# Altium footprint library IC.PcbLib: 10 footprints
Each footprint in its own frame and in the unit in brackets; x right, y up, seen from the top. Pads: shape width x height; smd on the part's side, far side on the other; paste and mask are expansions set on the pad; w line width, h text height; cw(c..) or ccw(c..) is an arc to the next point about the centre after c.
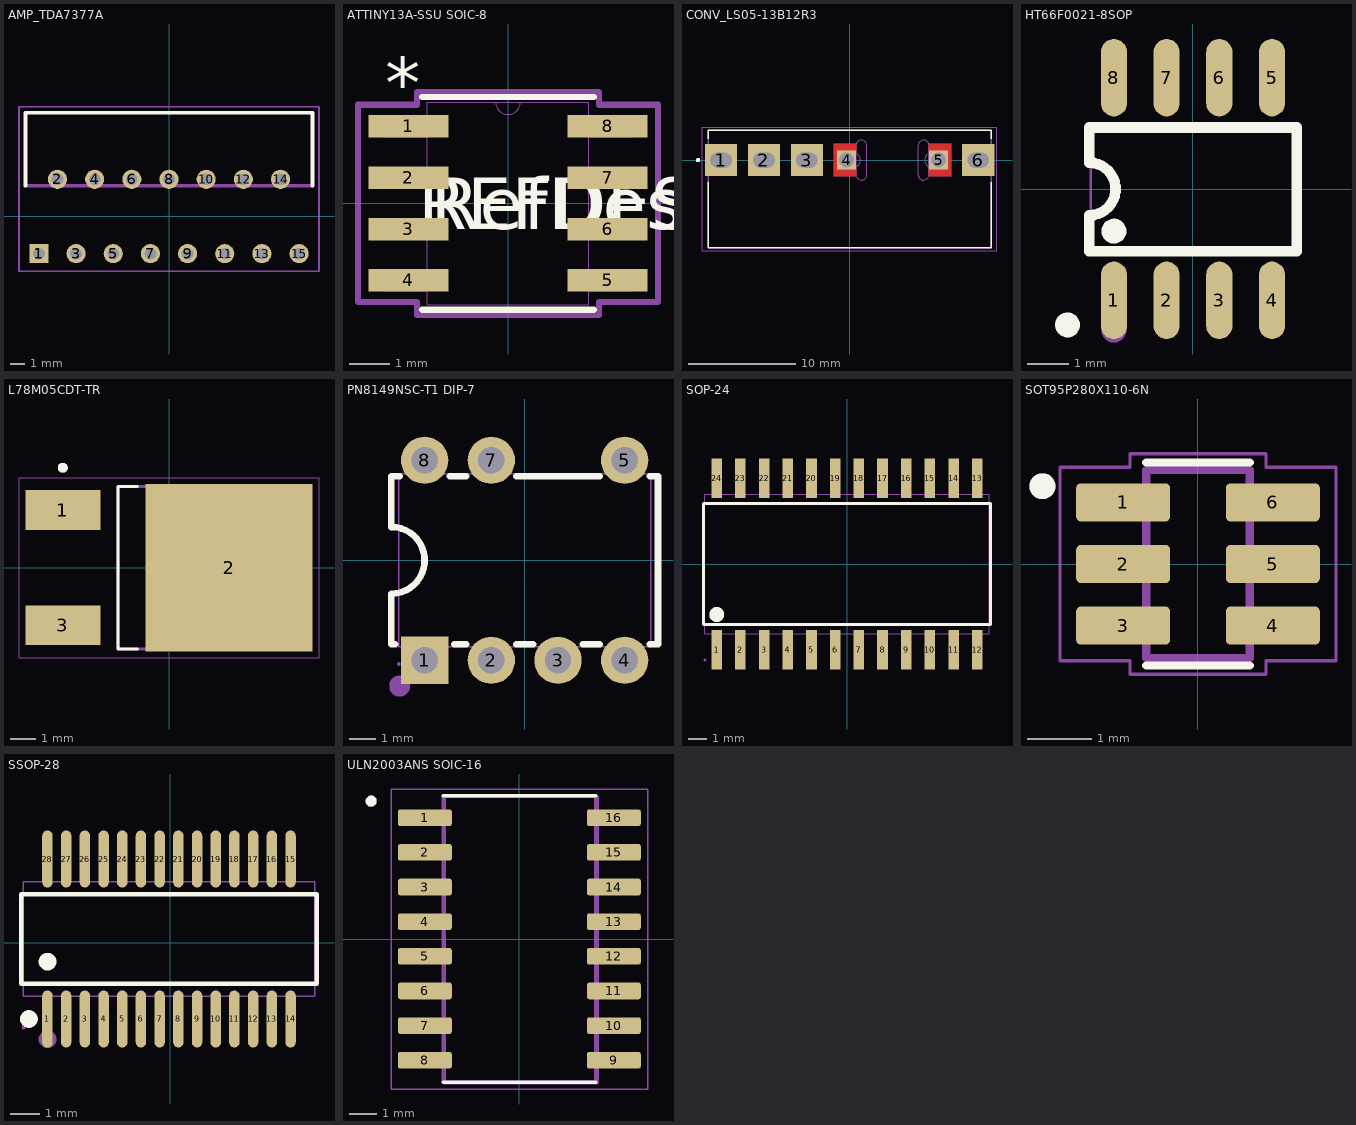
[diagram p0: the footprints below, top view; thin cyan lines are the x and y axes]

## AMP_TDA7377A [mm]
pads (15):
  rect 1.308x1.308 / inner round 1.308 / far side rect 1.308x1.308 hole 0.8: 1(-8.89,-2.54)
  round 1.308 hole 0.8: 2(-7.62,2.54) 3(-6.35,-2.54) 4(-5.08,2.54) 5(-3.81,-2.54) 6(-2.54,2.54) 7(-1.27,-2.54) 8(0,2.54) 9(1.27,-2.54) 10(2.54,2.54) 11(3.81,-2.54) 12(5.08,2.54) 13(6.35,-2.54) 14(7.62,2.54) 15(8.89,-2.54)
Top Overlay:
  lines w0.254: -9.8,2.09 -9.8,7.09 9.8,7.09 9.8,2.09
Mechanical 13:
  lines w0.254: -9.8,2.09 9.8,2.09
Mechanical 15:
  lines w0.127: -10.25,-3.75 10.25,-3.75 10.25,7.5 -10.25,7.5 -10.25,-3.75
Mechanical 29 (Mech29):
  text "'.Designator'" at -6.172,1.956 h1.52
3D body "step_temp.STEP": height 21, standoff -4.4, extent -9.8,-2.855 9.8,7.035

## ATTINY13A-SSU SOIC-8 [mil]
pads (8):
  rect 78x22 smd paste+0 mask+0: 1(-97,75) 2(-97,25) 3(-97,-25) 4(-97,-75) 5(97,-75) 6(97,-25) 7(97,25) 8(97,75)
Top Overlay:
  lines w6: -83.5,-103.5 83.5,-103.5 ; -83.5,103.5 83.5,103.5
  text "RefDes" at -75,-25 h50
  text "*" at -119.5,92 h50
  text "REFDES" at -87.5,-25 h50
Mechanical 15:
  lines w0: -12,98.5 ccw(c0,98.5) 12,98.5
  lines w1: -122,-85 -78.5,-85 -78.5,-65 -122,-65 -122,-85 ; -122,-35 -78.5,-35 -78.5,-15 -122,-15 -122,-35 ; -122,15 -78.5,15 -78.5,35 -122,35 -122,15 ; -122,65 -78.5,65 -78.5,85 -122,85 -122,65 ; -78.5,-98.5 -78.5,98.5 78.5,98.5 78.5,-98.5 -78.5,-98.5 ; 78.5,-85 78.5,-65 122,-65 122,-85 78.5,-85 ; 78.5,-35 78.5,-15 122,-15 122,-35 78.5,-35 ; 78.5,15 78.5,35 122,35 122,15 78.5,15 ; 78.5,65 78.5,85 122,85 122,65 78.5,65
  lines w6: -146,-96 -88.5,-96 -88.5,-108.5 88.5,-108.5 88.5,-96 146,-96 146,96 88.5,96 88.5,108.5 -88.5,108.5 -88.5,96 -146,96 -146,-96
Mechanical 29 (Mech29):
  text "*" at -76,45.5 h50
  text "'.Designator'" at -133,-29 h50
3D body "8S1_ATM.step": height 67.09, standoff 0, extent -122,-98.5 122.01,98.51

## CONV_LS05-13B12R3 [mm]
pads (6):
  rect 3x3 hole 1.4 slot 2 at 0 deg: 1(-12,0) 2(-8,0) 3(-4,0) 6(12,0)
  rect 1.78x1.78 hole 1.4 mask+0: 4(-0.29,0) 5(8.29,0)
Top Layer:
  region: 9.5,-1.5 7.4,-1.5 7.4,-0.7 8.3,-0.7 8.337,-0.699 8.373,-0.696 8.41,-0.691 8.446,-0.685 8.481,-0.676 8.516,-0.666 8.551,-0.654 8.585,-0.639 8.618,-0.624 8.65,-0.606 8.681,-0.587 8.711,-0.566 8.741,-0.544 8.768,-0.52 8.795,-0.495 8.82,-0.468 8.844,-0.441 8.866,-0.411 8.887,-0.381 8.906,-0.35 8.924,-0.318 8.939,-0.285 8.954,-0.251 8.966,-0.216 8.976,-0.181 8.985,-0.146 8.991,-0.11 8.996,-0.073 8.999,-0.037 9,0 8.999,0.037 8.996,0.073 8.991,0.11 8.985,0.146 8.976,0.181 8.966,0.216 8.954,0.251 8.939,0.285 8.924,0.318 8.906,0.35 8.887,0.381 8.866,0.411 8.844,0.441 8.82,0.468 8.795,0.495 8.768,0.52 8.741,0.544 8.711,0.566 8.681,0.587 8.65,0.606 8.618,0.624 8.585,0.639 8.551,0.654 8.516,0.666 8.481,0.676 8.446,0.685 8.41,0.691 8.373,0.696 8.337,0.699 8.3,0.7 7.4,0.7 7.4,1.5 9.5,1.5
  region: 0.6,0.7 -0.3,0.7 -0.337,0.699 -0.373,0.696 -0.41,0.691 -0.446,0.685 -0.481,0.676 -0.516,0.666 -0.551,0.654 -0.585,0.639 -0.618,0.624 -0.65,0.606 -0.681,0.587 -0.711,0.566 -0.741,0.544 -0.768,0.52 -0.795,0.495 -0.82,0.468 -0.844,0.441 -0.866,0.411 -0.887,0.381 -0.906,0.35 -0.924,0.318 -0.939,0.285 -0.954,0.251 -0.966,0.216 -0.976,0.181 -0.985,0.146 -0.991,0.11 -0.996,0.073 -0.999,0.037 -1,0 -0.999,-0.037 -0.996,-0.073 -0.991,-0.11 -0.985,-0.146 -0.976,-0.181 -0.966,-0.216 -0.954,-0.251 -0.939,-0.285 -0.924,-0.318 -0.906,-0.35 -0.887,-0.381 -0.866,-0.411 -0.844,-0.441 -0.82,-0.468 -0.795,-0.495 -0.768,-0.52 -0.741,-0.544 -0.711,-0.566 -0.681,-0.587 -0.65,-0.606 -0.618,-0.624 -0.585,-0.639 -0.551,-0.654 -0.516,-0.666 -0.481,-0.676 -0.446,-0.685 -0.41,-0.691 -0.373,-0.696 -0.337,-0.699 -0.3,-0.7 0.6,-0.7 0.6,-1.5 -1.5,-1.5 -1.5,1.5 0.6,1.5
Bottom Layer:
  region: 9.5,-1.5 7.4,-1.5 7.4,-0.7 8.3,-0.7 8.337,-0.699 8.373,-0.696 8.41,-0.691 8.446,-0.685 8.481,-0.676 8.516,-0.666 8.551,-0.654 8.585,-0.639 8.618,-0.624 8.65,-0.606 8.681,-0.587 8.711,-0.566 8.741,-0.544 8.768,-0.52 8.795,-0.495 8.82,-0.468 8.844,-0.441 8.866,-0.411 8.887,-0.381 8.906,-0.35 8.924,-0.318 8.939,-0.285 8.954,-0.251 8.966,-0.216 8.976,-0.181 8.985,-0.146 8.991,-0.11 8.996,-0.073 8.999,-0.037 9,0 8.999,0.037 8.996,0.073 8.991,0.11 8.985,0.146 8.976,0.181 8.966,0.216 8.954,0.251 8.939,0.285 8.924,0.318 8.906,0.35 8.887,0.381 8.866,0.411 8.844,0.441 8.82,0.468 8.795,0.495 8.768,0.52 8.741,0.544 8.711,0.566 8.681,0.587 8.65,0.606 8.618,0.624 8.585,0.639 8.551,0.654 8.516,0.666 8.481,0.676 8.446,0.685 8.41,0.691 8.373,0.696 8.337,0.699 8.3,0.7 7.4,0.7 7.4,1.5 9.5,1.5
  region: 0.6,0.7 -0.3,0.7 -0.337,0.699 -0.373,0.696 -0.41,0.691 -0.446,0.685 -0.481,0.676 -0.516,0.666 -0.551,0.654 -0.585,0.639 -0.618,0.624 -0.65,0.606 -0.681,0.587 -0.711,0.566 -0.741,0.544 -0.768,0.52 -0.795,0.495 -0.82,0.468 -0.844,0.441 -0.866,0.411 -0.887,0.381 -0.906,0.35 -0.924,0.318 -0.939,0.285 -0.954,0.251 -0.966,0.216 -0.976,0.181 -0.985,0.146 -0.991,0.11 -0.996,0.073 -0.999,0.037 -1,0 -0.999,-0.037 -0.996,-0.073 -0.991,-0.11 -0.985,-0.146 -0.976,-0.181 -0.966,-0.216 -0.954,-0.251 -0.939,-0.285 -0.924,-0.318 -0.906,-0.35 -0.887,-0.381 -0.866,-0.411 -0.844,-0.441 -0.82,-0.468 -0.795,-0.495 -0.768,-0.52 -0.741,-0.544 -0.711,-0.566 -0.681,-0.587 -0.65,-0.606 -0.618,-0.624 -0.585,-0.639 -0.551,-0.654 -0.516,-0.666 -0.481,-0.676 -0.446,-0.685 -0.41,-0.691 -0.373,-0.696 -0.337,-0.699 -0.3,-0.7 0.6,-0.7 0.6,-1.5 -1.5,-1.5 -1.5,1.5 0.6,1.5
Top Overlay:
  circle w0.2: c-14.15,0 r0.1
  lines w0.127: -13.2,-2.05 -13.2,-8.2 13.2,-8.2 13.2,-2.05 ; -13.2,2 -13.2,2.8 13.2,2.8 13.2,2
Top Solder:
  region: 7.49,-1.965 6.3,-1.965 6.3,1.965 7.49,1.965
  region: 9.6,-1.6 7.3,-1.6 7.3,-0.6 7.3,0.6 7.3,1.6 9.6,1.6
  region: 0.7,0.6 0.7,-0.6 0.7,-1.6 -1.6,-1.6 -1.6,1.6 0.7,1.6
  region: 1.7,-1.965 0.49,-1.965 0.49,1.965 1.7,1.965
Bottom Solder:
  region: 7.49,-1.965 6.3,-1.965 6.3,1.965 7.49,1.965
  region: 9.6,-1.6 7.3,-1.6 7.3,-0.6 7.3,0.6 7.3,1.6 9.6,1.6
  region: 0.7,0.6 0.7,-0.6 0.7,-1.6 -1.6,-1.6 -1.6,1.6 0.7,1.6
  region: 1.7,-1.965 0.49,-1.965 0.49,1.965 1.7,1.965
Mechanical 1:
  lines w0: 0.6,-1.365 0.6,1.365 ; 0.6,-1.361 ccw(c1.095,-1.37) 1.086,-1.865 ccw(c1.095,-1.36) 1.6,-1.369 ; 0.6,1.361 cw(c1.095,1.37) 1.086,1.865 cw(c1.095,1.36) 1.6,1.369 ; 1.6,-1.365 1.6,1.365 ; 6.4,-1.369 ccw(c6.905,-1.36) 6.914,-1.865 ccw(c6.905,-1.37) 7.4,-1.361 ; 6.4,-1.365 6.4,1.365 ; 6.4,1.369 cw(c6.905,1.36) 6.914,1.865 cw(c6.905,1.37) 7.4,1.361 ; 7.4,-1.365 7.4,1.365 ; -1,0 cw(c-0.3,0) -0.3,0.7 0.3,0.7 cw(c0.3,0) 1,0 cw(c0.3,0) 0.3,-0.7 -0.3,-0.7 cw(c-0.3,0) -1,0 ; 7,0 cw(c7.7,0) 7.7,0.7 8.3,0.7 cw(c8.3,0) 9,0 cw(c8.3,0) 8.3,-0.7 7.7,-0.7 cw(c7.7,0) 7,0
Mechanical 13:
  circle w0.2: c-14.15,0 r0.1
  lines w0.127: -13.2,-8.2 13.2,-8.2 13.2,2.8 -13.2,2.8 -13.2,-8.2
Mechanical 15:
  lines w0.05: -13.75,-8.45 13.75,-8.45 13.75,3.05 -13.75,3.05 -13.75,-8.45
Mechanical 29 (Mech29):
  text "'.Designator'" at -2.921,-2.032 h1.52
3D body "step_temp.STEP": height 14.73, standoff -2.87, extent -13.2,-8.2 13.2,2.8

## HT66F0021-8SOP [mm]
pads (8):
  oval 0.63x1.865 smd paste+0 mask+0.051: 1(-1.905,-2.682) 2(-0.635,-2.682) 3(0.635,-2.682) 4(1.905,-2.682) 5(1.905,2.682) 6(0.635,2.682) 7(-0.635,2.682) 8(-1.905,2.682)
Top Overlay:
  circle w0.3: c-1.905,-1.016 r0.15
  circle w0.3: c-3.023,-3.277 r0.15
  lines w0.254: -2.5,-1.498 2.5,-1.498 2.5,1.482 -2.5,1.482 -2.499,0.635 cw(c-2.5,0) -2.5,-0.635 -2.5,-1.498
Mechanical 15:
  circle w0.3: c-1.905,-3.4 r0.15
  lines w0.051: -2.464,-1.448 2.439,-1.448 2.439,1.448 -2.464,1.448 -2.464,-1.448
Mechanical 29 (Mech29):
  text "'.Designator'" at -2.413,-0.762 h1.52
3D body "SO-8.STEP": height 1.5, standoff 0, extent -2.399,-3.039 2.501,2.989

## L78M05CDT-TR [mm]
height 2.4
pads (3):
  rect 3x1.6 smd: 1(-4.25,2.3) 3(-4.25,-2.3)
  rect 6.7x6.7 smd paste-2.645: 2(2.4,0)
Top Overlay:
  circle w0.2: c-4.25,4 r0.1
  lines w0.127: -1.264,-3.25 -2.037,-3.25 -2.037,3.25 -1.264,3.25
Top Paste:
  region: 0.645,-3.165 -0.765,-3.165 -0.765,-1.755 0.645,-1.755
  region: 0.645,-0.705 -0.765,-0.705 -0.765,0.705 0.645,0.705
  region: 0.645,1.755 -0.765,1.755 -0.765,3.165 0.645,3.165
  region: 5.565,-3.165 4.155,-3.165 4.155,-1.755 5.565,-1.755
  region: 3.105,-3.165 1.695,-3.165 1.695,-1.755 3.105,-1.755
  region: 5.565,-0.705 4.155,-0.705 4.155,0.705 5.565,0.705
  region: 5.565,1.755 4.155,1.755 4.155,3.165 5.565,3.165
  region: 3.105,1.755 1.695,1.755 1.695,3.165 3.105,3.165
Mechanical 13:
  lines w0.127: -2.037,-3.25 -2.037,3.25 4.062,3.25 4.062,-3.25 -2.037,-3.25
Mechanical 15:
  lines w0.05: -6,-3.6 6,-3.6 6,3.6 -6,3.6 -6,-3.6
Mechanical 29 (Mech29):
  circle w0.2: c-4.25,4 r0.1
  text "'.Designator'" at -5.08,-0.635 h1.52
3D body "step_temp.STEP": height 2.4, standoff 0, extent -4.725,-3.25 5,3.25

## PN8149NSC-T1 DIP-7 [mm]
pads (7):
  rect 1.8x1.8 hole 1: 1(-3.81,-3.81)
  round 1.8 hole 1: 2(-1.27,-3.81) 3(1.27,-3.81) 4(3.81,-3.81) 5(3.81,3.81) 7(-1.27,3.81) 8(-3.81,3.81)
Top Overlay:
  lines w0.254: -4.941,-3.2 -5.08,-3.2 -5.08,-1.27 ccw(c-5.08,0) -5.08,1.27 -5.08,3.2 -4.762,3.2 ; -2.858,3.2 -2.222,3.2 ; -2.679,-3.2 -2.222,-3.2 ; -0.318,-3.2 0.318,-3.2 ; -0.318,3.2 0.318,3.2 2.222,3.2 2.858,3.2 ; 2.222,-3.2 2.858,-3.2 ; 4.762,-3.2 5.08,-3.2 5.08,3.2 4.762,3.2
Mechanical 15:
  region: -4.74,-3.95 -4.74,-3.975 -4.775,-4.01 -4.825,-4.01 -4.86,-3.975 -4.86,-3.95 -4.86,-3.925 -4.825,-3.89 -4.775,-3.89 -4.74,-3.925 -4.74,-3.95
  region: -4.06,3.67 -4.06,3.95 -3.56,3.95 -3.56,3.67
  region: -3.56,-3.95 -4.06,-3.95 -4.06,-3.67 -3.56,-3.67
  region: -1.52,-3.95 -1.52,-3.67 -1.02,-3.67 -1.02,-3.95
  region: 1.02,-3.95 1.02,-3.67 1.52,-3.67 1.52,-3.95
  region: 3.56,-3.95 3.56,-3.67 4.06,-3.67 4.06,-3.95
  region: 3.56,3.67 3.56,3.95 4.06,3.95 4.06,3.67
  region: -1.52,3.67 -1.52,3.95 -1.02,3.95 -1.02,3.67
  region: -1.63,3.95 -0.902,3.95 -0.902,3.29 -1.63,3.29
  region: -0.91,-3.95 -1.638,-3.95 -1.638,-3.29 -0.91,-3.29
  region: 1.63,-3.95 0.902,-3.95 0.902,-3.29 1.63,-3.29
  region: -4.06,3.95 -3.442,3.95 -3.442,3.29 -4.06,3.29
  region: -3.442,-3.95 -4.06,-3.95 -4.06,-3.29 -3.442,-3.29
  region: 4.058,-3.95 3.44,-3.95 3.44,-3.29 4.058,-3.29
  region: 3.44,3.95 4.058,3.95 4.058,3.29 3.44,3.29
  lines w0.051: -4.8,-3.3 -4.8,3.3 4.8,3.3 4.8,-3.3 -4.8,-3.3
Mechanical 29 (Mech29):
  circle w0.4: c-4.76,-4.79 r0.2
3D body "AnyConv.com__3dslash-14 Sep 25.step": height 5.63, standoff -3, extent -5.545,-3.989 5.393,3.886

## SOP-24 [mil]
pads (24):
  rect 22.38x83.4 smd: 1(-275,-181.46) 2(-225,-181.46) 3(-175,-181.46) 4(-125,-181.46) 5(-75,-181.46) 6(-25,-181.46) 7(25,-181.46) 8(75,-181.46) 9(125,-181.46) 10(175,-181.46) 11(225,-181.46) 12(275,-181.46) 13(275,181.46) 14(225,181.46) 15(175,181.46) 16(125,181.46) 17(75,181.46) 18(25,181.46) 19(-25,181.46) 20(-75,181.46) 21(-125,181.46) 22(-175,181.46) 23(-225,181.46) 24(-275,181.46)
Top Overlay:
  circle w15.75: c-275,-106.66 r7.87
  lines w6: -303,-127.76 -303,127.76 303,127.76 303,-127.76 -303,-127.76
Mechanical 15:
  drawing of 53 lines, arcs and shapes, not listed
Mechanical 29 (Mech29):
  circle w15.75: c-275,-106.66 r7.87
  text "'.Designator'" at -280,-40 h60
3D body "SOP127P1030X252-24N.step": height 99.02, standoff 0, extent -301.18,-197.76 301.18,207.76

## SOT95P280X110-6N [mm]
pads (6):
  rrect25% 1.45x0.59 smd: 1(-1.155,0.95) 2(-1.155,0) 3(-1.155,-0.95) 4(1.155,-0.95) 5(1.155,0) 6(1.155,0.95)
Top Overlay:
  circle w0.2: c-2.4,1.2 r0.1
  lines w0.127: -0.8,-1.565 0.8,-1.565 ; -0.8,1.565 0.8,1.565
Mechanical 13:
  circle w0.2: c-2.4,1.2 r0.1
  lines w0.127: -0.8,-1.45 -0.8,1.45 0.8,1.45 0.8,-1.45 -0.8,-1.45
Mechanical 15:
  lines w0.05: -2.13,-1.495 -2.13,1.495 -1.05,1.495 -1.05,1.7 1.05,1.7 1.05,1.495 2.13,1.495 2.13,-1.495 1.05,-1.495 1.05,-1.7 -1.05,-1.7 -1.05,-1.495 -2.13,-1.495
Mechanical 29 (Mech29):
  text "'.Designator'" at -1.297,-0.329 h1
3D body "step_temp.STEP": height 1.1, standoff 0, extent -1.4,-1.45 1.4,1.45

## SSOP-28 [mil]
pads (28):
  oval 14x76.17 smd: 1(-164.39,-101.91) 2(-139.39,-101.91) 3(-114.39,-101.91) 4(-89.39,-101.91) 5(-64.39,-101.91) 6(-39.39,-101.91) 7(-14.39,-101.91) 8(10.61,-101.91) 9(35.61,-101.91) 10(60.61,-101.91) 11(85.61,-101.91) 12(110.61,-101.91) 13(135.61,-101.91) 14(160.61,-101.91) 15(160.61,112.03) 16(135.61,112.03) 17(110.61,112.03) 18(85.61,112.03) 19(60.61,112.03) 20(35.61,112.03) 21(10.61,112.03) 22(-14.39,112.03) 23(-39.39,112.03) 24(-64.39,112.03) 25(-89.39,112.03) 26(-114.39,112.03) 27(-139.39,112.03) 28(-164.39,112.03)
Top Overlay:
  circle w11.81: c-189.2,-101.91 r5.91
  circle w11.81: c-164.39,-25.2 r5.91
  lines w6: -199.64,-54.82 195.85,-54.82 195.85,64.94 -199.64,64.94 -199.64,-54.82
Mechanical 15:
  drawing of 61 lines, arcs and shapes, not listed
Mechanical 29 (Mech29):
  circle w11.81: c-164.39,-128.95 r5.91
  text "'.Designator'" at -115,-15.01 h60
3D body "PCA8575DB,118.STEP": height 78.74, standoff 0, extent -200,-150 201.57,157.08

## ULN2003ANS SOIC-16 [mm]
pads (16):
  rrect25% 1.97x0.61 smd: 1(-3.465,4.445) 2(-3.465,3.175) 3(-3.465,1.905) 4(-3.465,0.635) 5(-3.465,-0.635) 6(-3.465,-1.905) 7(-3.465,-3.175) 8(-3.465,-4.445) 9(3.465,-4.445) 10(3.465,-3.175) 11(3.465,-1.905) 12(3.465,-0.635) 13(3.465,0.635) 14(3.465,1.905) 15(3.465,3.175) 16(3.465,4.445)
Top Overlay:
  circle w0.2: c-5.435,5.055 r0.1
  lines w0.127: -2.8,-5.25 2.8,-5.25 ; -2.8,5.25 2.8,5.25
Mechanical 13:
  lines w0.127: -2.8,-5.25 -2.8,5.25 2.8,5.25 2.8,-5.25 -2.8,-5.25
Mechanical 15:
  lines w0.05: -4.7,-5.5 -4.7,5.5 4.7,5.5 4.7,-5.5 -4.7,-5.5
  lines w0.127: -2.749,-5.275 -2.749,5.225 2.851,5.225 2.851,-5.275 -2.749,-5.275
Mechanical 29 (Mech29):
  circle w0.2: c-5.435,5.055 r0.1
  text "'.Designator'" at -4.242,-0.356 h1.52
3D body "NS16.step": height 2.01, standoff 0, extent -4.051,-5.27 4.153,5.22